# Altium schematic symbol library transistors.SchLib: 40 symbols
Pins are listed as number, name and electrical type; pins without a type are passive.

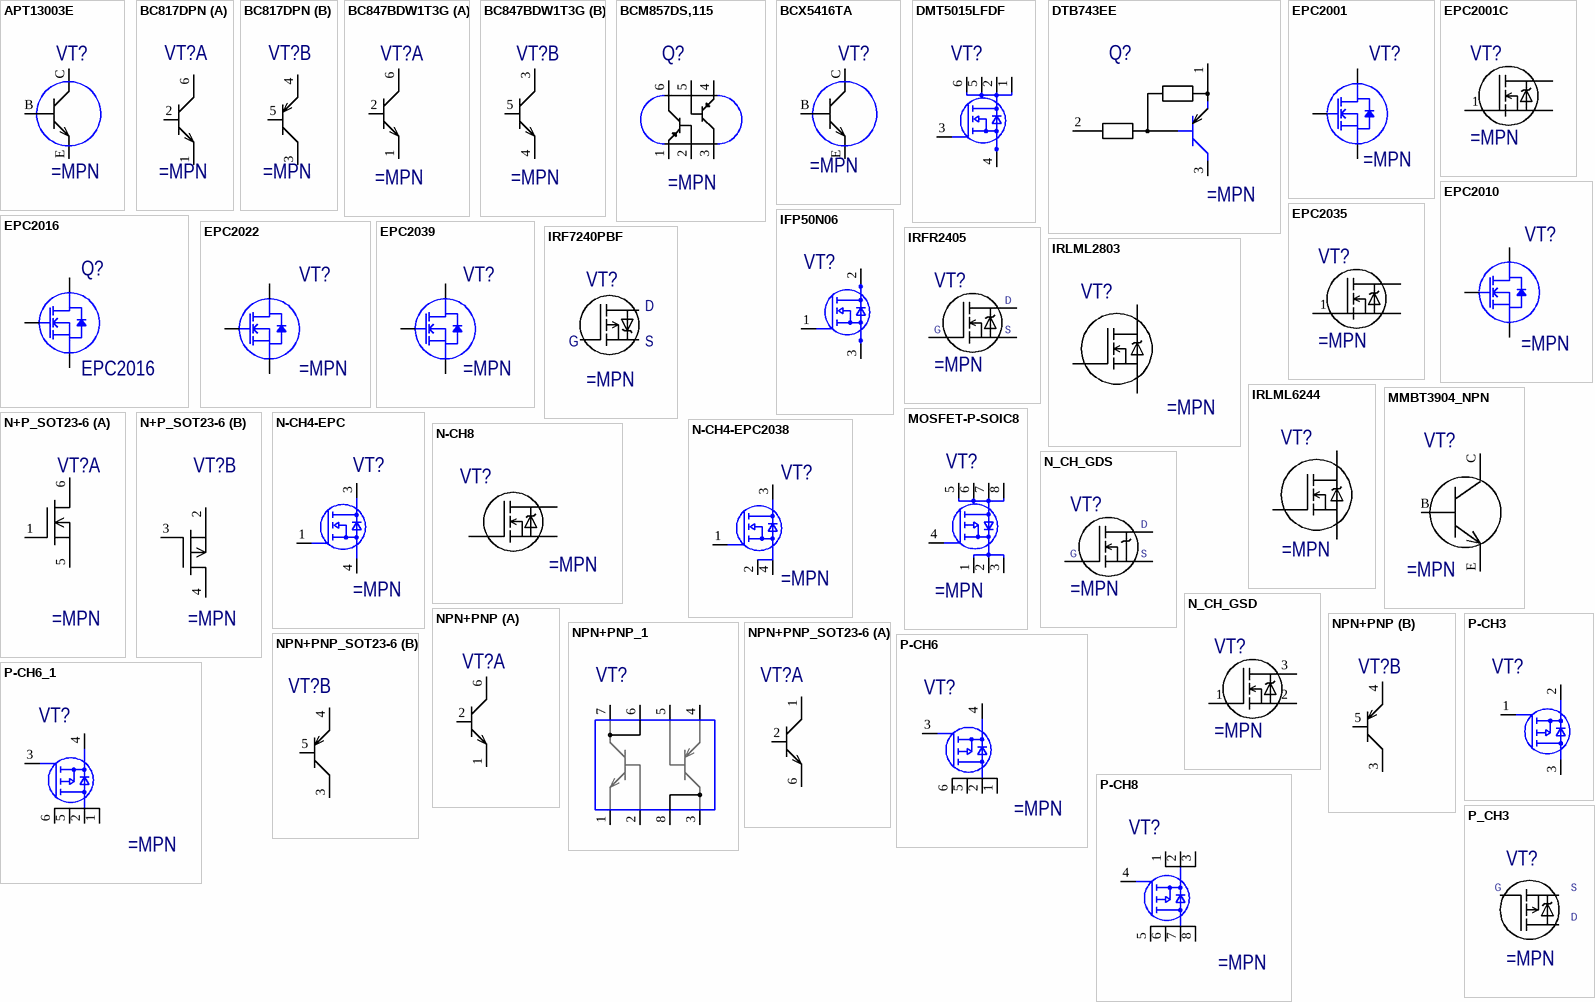
[diagram p0: symbols APT13003E to P_CH3]

## APT13003E
designator VT?
pins: B BASE, E EMITTER, С COLLECTOR
1 alternate drawing of the same symbol

## BC817DPN
designator VT?
part A pins: 1, 2, 6
part B pins: 3, 4, 5
1 alternate drawing of the same symbol

## BC847BDW1T3G
designator VT?
part A pins: 1, 2, 6
part B pins: 3, 4, 5
1 alternate drawing of the same symbol

## BCM857DS,115
designator Q?
BCM857 Series 45 V 100 mA PNP/PNP Matched Double Transistor - SC-74
pins: 1 E1, 2 B1, 3 C2, 4 E2, 5 B2, 6 C1

## BCX5416TA
designator VT?
pins: B BASE, E EMITTER, С COLLECTOR
1 alternate drawing of the same symbol

## DMT5015LFDF
designator VT?
pins: 1 S1, 2 S2, 3 S3, 4 G, 5 D1, 6 D2
1 alternate drawing of the same symbol

## DTB743EE
designator Q?
pins: 1 S1, 2 S2, 3 S3
1 alternate drawing of the same symbol

## EPC2001
designator VT?
100V 25A 7mE
pins: 1 G, 2 SS (oe), 3 D1 (oc), 4 SP1 (oe), 5 D2 (oc), 6 SP2 (oe), 7 D3 (oc), 8 SP3 (oe), 9 D4 (oc), 10 SP4 (oe), 11 D5 (oc)

## EPC2001С
designator VT?
Power MOSFET
pins: 1 G, 3 D, 4 S, 5 D, 6 S, 6 S, 6 S, 7 D, 8 S, 9 D, 10 S, 11 D

## EPC2010
designator VT?
200V 12A 25mE
pins: 1 G, 2 SS (oe), 3 D1 (oc), 4 SP1 (oe), 5 D2 (oc), 6 SP2 (oe), 7 D3 (oc)

## EPC2016
designator Q?
100V 11A 16mE
pins: 1 G, 2 SS (oe), 3 D1 (oc), 4 SP1 (oe), 5 D2 (oc), 6 SP2 (oe)

## EPC2022
designator VT?
100V 60A 3.2mE
pins: 1 G, 2 S1 (oe), 3 D1 (oc), 4 D1 (oc), 5 S1 (oe), 6 S1 (oe), 7 D1 (oc), 8 D1 (oc), 9 S1 (oe), 10 S1 (oe), 11 D1 (oc), 12 D1 (oc), 13 S1 (oe), 14 S1 (oe), 15 D1 (oc), 16 D1 (oc), 17 S1 (oe), 18 S1 (oe), 19 D1 (oc), 20 D1 (oc), 21 S1 (oe), 22 S1 (oe), 23 D1 (oc), 24 D1 (oc), 25 S1 (oe), 26 S1 (oe), 27 D1 (oc), 28 D1 (oc), 29 S1 (oe), 30 SS (oe)

## EPC2035
designator VT?
Power MOSFET
pins: 1 G, 2 S, 3 D, 3 D, 4 S, 6 S, 6 S

## EPC2039
designator VT?
80V 22mE
pins: 1 G, 2 SS (oe), 3 D1 (oc), 4 SP1 (oe)

## IFP50N06
designator VT?
pins: 1 G, 2 D, 3 S
1 alternate drawing of the same symbol

## IRF7240PBF
designator VT?
MOSFET P-CH 40V 10.5A 8-SOIC
pins: 1 G, 2 S, 3 D

## IRFR2405
designator VT?
Power MOSFET; ComponentLink1Description: DataSheet; ComponentLink1URL: C:\DATASHEET\MOSFET\irfr2405.pdf
pins: 1 G, 2 D, 3 S

## IRLML2803
designator VT?
pins: 1 GATE, 2 SOURCE, 3 DRAIN
1 alternate drawing of the same symbol

## IRLML6244
designator VT?
pins: 1 G, 2 S, 3 D
1 alternate drawing of the same symbol

## MMBT3904_NPN
designator VT?
pins: B, C, E
1 alternate drawing of the same symbol

## MOSFET-P-SOIC8
designator VT?
pins: 1 S1, 2 S2, 3 S3, 4 G, 5 D1, 6 D2, 7 D3, 8 D4
1 alternate drawing of the same symbol

## N+P_SOT23-6
designator VT?
part A pins: 1, 5, 6
part B pins: 2, 3, 4
1 alternate drawing of the same symbol

## N-CH4-EPC
designator VT?
pins: 1 GATE, 3 DRAIN, 4 SOURCE

## N-CH4-EPC2038
designator VT?
pins: 1 GATE, 2 SOURCE, 3 DRAIN, 4 SOURCE

## N-CH8
designator VT?
pins: 1 S, 2 S, 3 S, 4 G, 5 D, 6 D, 7 D, 8 D
1 alternate drawing of the same symbol

## N_CH_GDS
designator VT?
Power MOSFET
pins: 1 G, 2 S, 3 D

## N_CH_GSD
designator VT?
Power MOSFET
pins: 1 G, 2 S, 3 D

## NPN+PNP
designator VT?
part A pins: 1, 2, 6, 7
part B pins: 3, 4, 5, 8
1 alternate drawing of the same symbol

## NPN+PNP_1
designator VT?
pins: 1, 2, 3, 4, 5, 6, 7, 8
1 alternate drawing of the same symbol

## NPN+PNP_SOT23-6
designator VT?
part A pins: 1, 2, 6
part B pins: 3, 4, 5
1 alternate drawing of the same symbol

## P-CH3
designator VT?
pins: 1 G, 2 S, 3 D
1 alternate drawing of the same symbol

## P-CH6
designator VT?
pins: 1 S1, 2 S2, 3 S3, 4 G, 5 D5, 6 D6
1 alternate drawing of the same symbol

## P-CH6_1
designator VT?
pins: 1 S1, 2 S2, 3 S3, 4 G, 5 D5, 6 D6
1 alternate drawing of the same symbol

## P-CH8
designator VT?
pins: 1 S1, 2 S2, 3 S3, 4 G, 5 D5, 6 D6, 7 D7, 8 D8
1 alternate drawing of the same symbol

## P_CH3
designator VT?
30V 4.0A P-Channel MOSFET
pins: 1 G, 2 S, 3 D

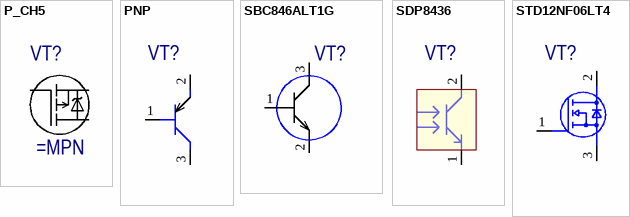
[diagram p1: symbols P_CH5 to STD12NF06LT4]

## P_CH5
designator VT?
pins: 1 S, 2 S, 3 S, 4 G, 5 D

## PNP
designator VT?
pins: 1 S1, 2 S2, 3 S3
1 alternate drawing of the same symbol

## SBC846ALT1G
designator VT?
pins: 1 BASE, 2 EMITTER, 3 COLLECTOR
1 alternate drawing of the same symbol

## SDP8436
designator VT?
pins: 1 S1, 2 S2
1 alternate drawing of the same symbol

## STD12NF06LT4
designator VT?
pins: 1 S1, 2 S2, 3 S3
1 alternate drawing of the same symbol